# Altium schematic symbol library LM22670.Schlib: 1 symbol
Pins are listed as number, name and electrical type; pins without a type are passive.

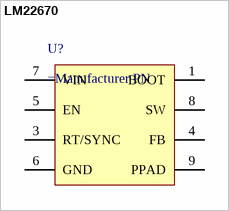
[diagram p0: symbol LM22670]

## LM22670
designator U?
Buck Reg Simple Switcher
pins: 1 BOOT, 2 NC hidden, 3 RT/SYNC, 4 FB, 5 EN, 6 GND, 7 VIN, 8 SW, 9 PPAD